# Altium footprint library SamacSys.PcbLib: 33 footprints (part 2 of 3)
Each footprint in its own frame and in the unit in brackets; x right, y up, seen from the top. Pads: shape width x height; smd on the part's side, far side on the other; paste and mask are expansions set on the pad; w line width, h text height; cw(c..) or ccw(c..) is an arc to the next point about the centre after c.
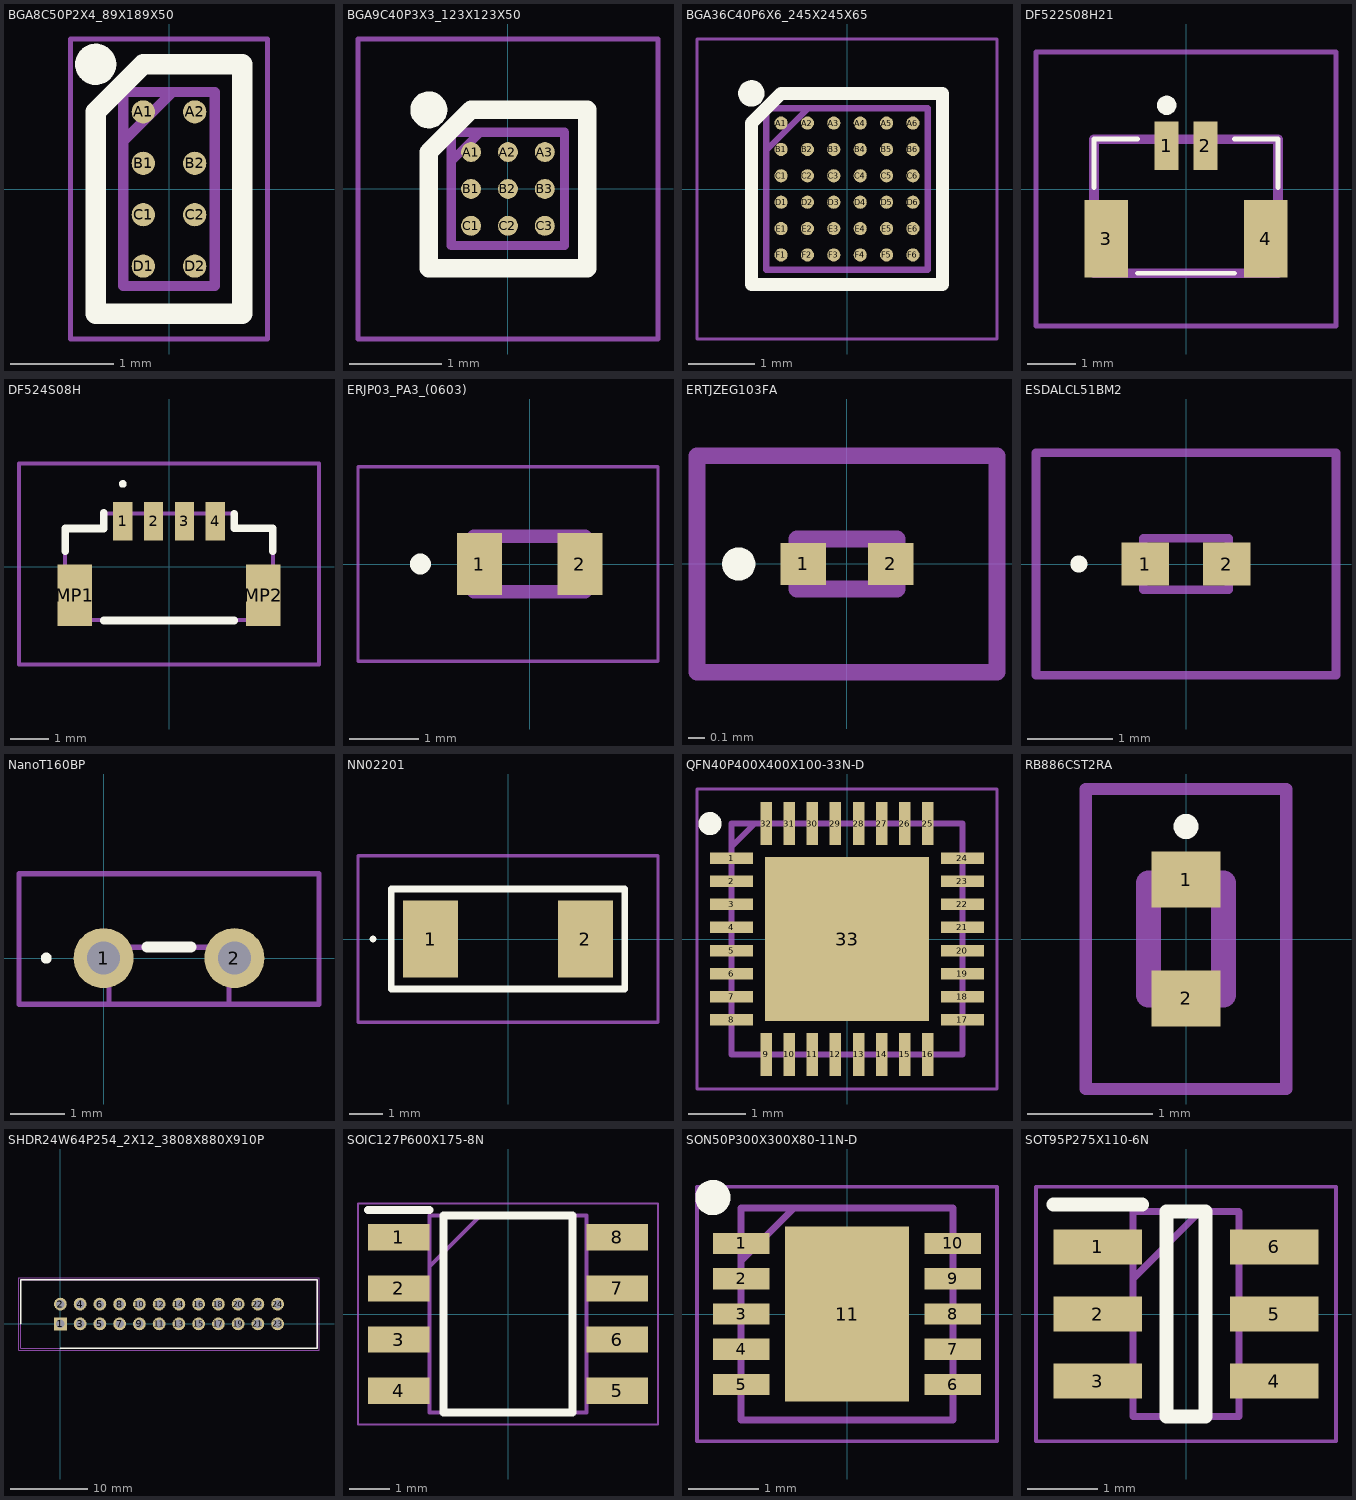
[diagram p1: the footprints below, top view; thin cyan lines are the x and y axes]

## BGA8C50P2X4_89X189X50 [mm]
pads (8):
  round 0.226 smd: A1(-0.25,0.75) A2(0.25,0.75) B1(-0.25,0.25) B2(0.25,0.25) C1(-0.25,-0.25) C2(0.25,-0.25) D1(-0.25,-0.75) D2(0.25,-0.75)
Top Overlay:
  circle w0.2: c-0.713,1.213 r0.1
  lines w0.2: -0.713,-1.213 -0.713,0.75 -0.25,1.213 0.713,1.213 0.713,-1.213 -0.713,-1.213
Mechanical 13:
  lines w0.1: -0.444,0.464 0.036,0.944 ; -0.444,-0.944 -0.444,0.944 0.444,0.944 0.444,-0.944 -0.444,-0.944
Mechanical 15:
  lines w0.05: -0.959,-1.459 -0.959,1.459 0.959,1.459 0.959,-1.459 -0.959,-1.459
3D body "TS5A3153YZPR.stp": height 0.5, standoff 0, extent -0.444,-0.944 0.444,0.944

## BGA9C40P3X3_123X123X50 [mm]
pads (9):
  round 0.216 smd: A1(-0.4,0.4) A2(0,0.4) A3(0.4,0.4) B1(-0.4,0) B2(0,0) B3(0.4,0) C1(-0.4,-0.4) C2(0,-0.4) C3(0.4,-0.4)
Top Overlay:
  circle w0.2: c-0.858,0.858 r0.1
  lines w0.2: -0.858,-0.858 -0.858,0.4 -0.4,0.858 0.858,0.858 0.858,-0.858 -0.858,-0.858
Mechanical 13:
  lines w0.1: -0.614,0.301 -0.301,0.614 ; -0.614,-0.614 -0.614,0.614 0.614,0.614 0.614,-0.614 -0.614,-0.614
Mechanical 15:
  lines w0.05: -1.626,-1.627 -1.626,1.626 1.627,1.626 1.627,-1.627 -1.626,-1.627
3D body "MAX40024ANL+.stp": height 0.5, standoff 0, extent -0.614,-0.614 0.614,0.614

## BGA36C40P6X6_245X245X65 [mm]
pads (36):
  round 0.2 smd: A1(-1,1) A2(-0.6,1) A3(-0.2,1) A4(0.2,1) A5(0.6,1) A6(1,1) B1(-1,0.6) B2(-0.6,0.6) B3(-0.2,0.6) B4(0.2,0.6) B5(0.6,0.6) B6(1,0.6) C1(-1,0.2) C2(-0.6,0.2) C3(-0.2,0.2) C4(0.2,0.2) C5(0.6,0.2) C6(1,0.2) D1(-1,-0.2) D2(-0.6,-0.2) D3(-0.2,-0.2) D4(0.2,-0.2) D5(0.6,-0.2) D6(1,-0.2) E1(-1,-0.6) E2(-0.6,-0.6) E3(-0.2,-0.6) E4(0.2,-0.6) E5(0.6,-0.6) E6(1,-0.6) F1(-1,-1) F2(-0.6,-1) F3(-0.2,-1) F4(0.2,-1) F5(0.6,-1) F6(1,-1)
Top Overlay:
  circle w0.2: c-1.45,1.45 r0.1
  lines w0.2: -1.45,-1.45 1.45,-1.45 1.45,1.45 -1,1.45 -1.45,1 -1.45,-1.45
Mechanical 13:
  lines w0.1: -1.225,0.588 -0.587,1.226 ; -1.225,-1.225 1.225,-1.225 1.225,1.225 -1.225,1.225 -1.225,-1.225
Mechanical 15:
  lines w0.05: -2.275,-2.275 2.275,-2.275 2.275,2.275 -2.275,2.275 -2.275,-2.275
3D body "TMUX646NZECR.stp": height 0.65, standoff 0, extent -1.225,-1.225 1.225,1.225

## DF522S08H21 [mm]
pads (4):
  rect 0.5x1 smd: 1(-0.4,0.89) 2(0.4,0.89)
  rect 0.9x1.6 smd: 3(-1.65,-1.03) 4(1.65,-1.03)
Top Overlay:
  lines w0.1: -1.9,0.03 -1.9,1.03 -1,1.03 ; -1,-1.74 1,-1.74 ; 1,1.03 1.9,1.03 1.9,0.03
  lines w0.2: -0.5,1.73 ccw(c-0.4,1.73) -0.3,1.73 ccw(c-0.4,1.73) -0.5,1.73
Mechanical 13:
  lines w0.2: -1.9,-1.74 -1.9,1.03 1.9,1.03 1.9,-1.74 -1.9,-1.74
Mechanical 15:
  lines w0.1: -3.1,-2.83 -3.1,2.83 3.1,2.83 3.1,-2.83 -3.1,-2.83
3D body "DF52-2S-0.8H_21_.stp": height 1.1, standoff 0, extent -2.01,-1.74 2.01,1.34

## DF524S08H [mm]
pads (6):
  rect 0.5x1 smd: 1(-1.2,1.177) 2(-0.4,1.177) 3(0.4,1.177) 4(1.2,1.177)
  rect 0.9x1.6 smd: MP1(-2.45,-0.743) MP2(2.45,-0.743)
Top Overlay:
  lines w0.1: -1.2,2.1 ccw(c-1.2,2.15) -1.2,2.2 ccw(c-1.2,2.15) -1.2,2.1
  lines w0.2: -2.7,0.4 -2.7,0.992 -1.7,0.992 -1.7,1.393 ; -1.7,-1.4 1.7,-1.4 ; 1.7,1.377 1.7,1 2.7,0.992 2.7,0.4
Mechanical 13:
  lines w0.1: -1.7,1.377 1.7,1.377 1.7,0.992 2.7,0.992 2.7,-1.393 -2.7,-1.393 -2.7,0.992 -1.7,0.992 -1.7,1.393
Mechanical 15:
  lines w0.1: -3.9,-2.543 3.9,-2.543 3.9,2.677 -3.9,2.677 -3.9,-2.543

## ERJP03_PA3_(0603) [mm]
pads (2):
  rect 0.65x0.9 smd: 1(-0.725,0) 2(0.725,0)
Top Overlay:
  circle w0.2: c-1.575,0 r0.05
Mechanical 13:
  lines w0.2: -0.8,-0.4 -0.8,0.4 0.8,0.4 0.8,-0.4 -0.8,-0.4
Mechanical 15:
  lines w0.05: -2.475,-1.4 -2.475,1.4 1.85,1.4 1.85,-1.4 -2.475,-1.4
3D body "ERJ-PA3J302V.stp": height 0.45, standoff 0, extent -0.8,-0.4 0.8,0.4

## ERTJZEG103FA [mm]
pads (2):
  rect 0.275x0.25 smd: 1(-0.263,0) 2(0.263,0)
Top Overlay:
  lines w0.1: -0.65,-0.05 ccw(c-0.65,0) -0.65,0.05 ccw(c-0.65,0) -0.65,-0.05
Mechanical 13:
  lines w0.1: -0.3,-0.15 -0.3,0.15 0.3,0.15 0.3,-0.15 -0.3,-0.15
Mechanical 15:
  lines w0.1: -0.9,-0.65 -0.9,0.65 0.9,0.65 0.9,-0.65 -0.9,-0.65
3D body "ERT-JZEG103FA.stp": height 0.33, standoff 0, extent -0.3,-0.15 0.3,0.15

## ESDALCL51BM2 [mm]
pads (2):
  rect 0.55x0.5 smd: 1(-0.475,0) 2(0.475,0)
Top Overlay:
  lines w0.1: -1.3,0 cw(c-1.25,0) -1.2,0 cw(c-1.25,0) -1.3,0
Mechanical 13:
  lines w0.1: -0.5,-0.3 -0.5,0.3 0.5,0.3 0.5,-0.3 -0.5,-0.3
Mechanical 15:
  lines w0.1: -1.75,-1.3 -1.75,1.3 1.75,1.3 1.75,-1.3 -1.75,-1.3
3D body "ESDALCL5-1BM2.stp": height 0.6, standoff 0, extent -0.7,-0.3 0.7,0.3

## NanoT160BP [mm]
pads (2):
  round 1.1 hole 0.6: 1(0,0) 2(2.4,0)
Top Overlay:
  lines w0.1: -1.1,0 ccw(c-1.05,0) -1,0 ccw(c-1.05,0) -1.1,0
  lines w0.2: 0.8,0.2 1.6,0.2
Mechanical 13:
  lines w0.1: 0.1,-0.85 0.1,0.2 2.3,0.2 2.3,-0.85 0.1,-0.85
Mechanical 15:
  lines w0.1: -1.55,-0.85 -1.55,1.55 3.95,1.55 3.95,-0.85 -1.55,-0.85
3D body "NANOT160BP.stp": height 0.46, standoff -1.34, extent 0.05,-1.5 2.35,0.15

## NN02201 [mm]
pads (2):
  rect 1.65x2.3 smd: 1(-2.325,0) 2(2.325,0)
Top Overlay:
  lines w0.1: -4.1,0 ccw(c-4.05,0) -4,0 ccw(c-4.05,0) -4.1,0
  lines w0.2: -3.5,-1.5 -3.5,1.5 3.5,1.5 3.5,-1.5 -3.5,-1.5
Mechanical 13:
  lines w0.1: -3.5,-1.5 -3.5,1.5 3.5,1.5 3.5,-1.5 -3.5,-1.5
Mechanical 15:
  lines w0.1: -4.5,-2.5 -4.5,2.5 4.5,2.5 4.5,-2.5 -4.5,-2.5
3D body "NN02-201.stp": height 1.02, standoff 0, extent -3.5,-1.5 3.5,1.5

## QFN40P400X400X100-33N-D [mm]
pads (33):
  rect 0.75x0.2 smd: 1(-2,1.4) 2(-2,1) 3(-2,0.6) 4(-2,0.2) 5(-2,-0.2) 6(-2,-0.6) 7(-2,-1) 8(-2,-1.4) 17(2,-1.4) 18(2,-1) 19(2,-0.6) 20(2,-0.2) 21(2,0.2) 22(2,0.6) 23(2,1) 24(2,1.4)
  rect 0.2x0.75 smd: 9(-1.4,-2) 10(-1,-2) 11(-0.6,-2) 12(-0.2,-2) 13(0.2,-2) 14(0.6,-2) 15(1,-2) 16(1.4,-2) 25(1.4,2) 26(1,2) 27(0.6,2) 28(0.2,2) 29(-0.2,2) 30(-0.6,2) 31(-1,2) 32(-1.4,2)
  rect 2.85x2.85 smd: 33(0,0)
Top Overlay:
  circle w0.2: c-2.375,2 r0.1
Mechanical 13:
  lines w0.1: -2,1.6 -1.6,2 ; -2,-2 2,-2 2,2 -2,2 -2,-2
Mechanical 15:
  lines w0.05: -2.6,-2.6 2.6,-2.6 2.6,2.6 -2.6,2.6 -2.6,-2.6
3D body "ADS1292IRSMR.stp": height 1, standoff 0, extent -2,-2 2,2

## RB886CST2RA [mm]
pads (2):
  rect 0.55x0.45 smd: 1(0,0.475) 2(0,-0.475)
Top Overlay:
  lines w0.1: -0.05,0.9 cw(c0,0.9) 0.05,0.9 cw(c0,0.9) -0.05,0.9
Mechanical 13:
  lines w0.2: -0.3,-0.45 0.3,-0.45 0.3,0.45 -0.3,0.45 -0.3,-0.45
Mechanical 15:
  lines w0.1: -0.8,-1.2 -0.8,1.2 0.8,1.2 0.8,-1.2 -0.8,-1.2
3D body "RB530CM-30T2R.stp": height 0.4, standoff 0, extent -0.3,-0.525 0.3,0.525

## SHDR24W64P254_2X12_3808X880X910P [mm]
pads (24):
  rect 1.65x1.65 hole 1.1: 1(0,0)
  round 1.65 hole 1.1: 2(0,2.54) 3(2.54,0) 4(2.54,2.54) 5(5.08,0) 6(5.08,2.54) 7(7.62,0) 8(7.62,2.54) 9(10.16,0) 10(10.16,2.54) 11(12.7,0) 12(12.7,2.54) 13(15.24,0) 14(15.24,2.54) 15(17.78,0) 16(17.78,2.54) 17(20.32,0) 18(20.32,2.54) 19(22.86,0) 20(22.86,2.54) 21(25.4,0) 22(25.4,2.54) 23(27.94,0) 24(27.94,2.54)
Top Overlay:
  lines w0.2: -5.07,0 -5.07,5.67 33.01,5.67 33.01,-3.13 0,-3.13
Mechanical 13:
  lines w0.1: -5.07,-3.13 33.01,-3.13 33.01,5.67 -5.07,5.67 -5.07,-3.13
Mechanical 15:
  lines w0.05: -5.32,-3.38 33.26,-3.38 33.26,5.92 -5.32,5.92 -5.32,-3.38
3D body "BHR-24-VUA.stp": height 9.1, standoff -3.3, extent -5.07,-3.13 33.01,5.67

## SOIC127P600X175-8N [mm]
pads (8):
  rect 1.525x0.65 smd: 1(-2.712,1.905) 2(-2.712,0.635) 3(-2.712,-0.635) 4(-2.712,-1.905) 5(2.712,-1.905) 6(2.712,-0.635) 7(2.712,0.635) 8(2.712,1.905)
Top Overlay:
  lines w0.2: -3.475,2.58 -1.95,2.58 ; -1.6,-2.45 1.6,-2.45 1.6,2.45 -1.6,2.45 -1.6,-2.45
Mechanical 13:
  lines w0.1: -1.95,1.18 -0.68,2.45 ; -1.95,-2.45 1.95,-2.45 1.95,2.45 -1.95,2.45 -1.95,-2.45
Mechanical 15:
  lines w0.05: -3.725,-2.75 3.725,-2.75 3.725,2.75 -3.725,2.75 -3.725,-2.75
3D body "NE555DR.stp": height 1.75, standoff 0, extent -3,-2.45 3,2.45

## SON50P300X300X80-11N-D [mm]
pads (11):
  rect 0.8x0.3 smd: 1(-1.5,1) 2(-1.5,0.5) 3(-1.5,0) 4(-1.5,-0.5) 5(-1.5,-1) 6(1.5,-1) 7(1.5,-0.5) 8(1.5,0) 9(1.5,0.5) 10(1.5,1)
  rect 1.75x2.48 smd: 11(0,0)
Top Overlay:
  circle w0.25: c-1.9,1.65 r0.125
Mechanical 13:
  lines w0.1: -1.5,0.75 -0.75,1.5 ; -1.5,-1.5 1.5,-1.5 1.5,1.5 -1.5,1.5 -1.5,-1.5
Mechanical 15:
  lines w0.05: -2.125,-1.8 2.125,-1.8 2.125,1.8 -2.125,1.8 -2.125,-1.8
3D body "LTC6078CDD#PBF.stp": height 0.8, standoff 0, extent -1.55,-1.5 1.55,1.5

## SOT95P275X110-6N [mm]
pads (6):
  rect 1.25x0.5 smd: 1(-1.25,0.95) 2(-1.25,0) 3(-1.25,-0.95) 4(1.25,-0.95) 5(1.25,0) 6(1.25,0.95)
Top Overlay:
  lines w0.2: -1.875,1.55 -0.625,1.55 ; -0.275,-1.45 -0.275,1.45 0.275,1.45 0.275,-1.45 -0.275,-1.45
Mechanical 13:
  lines w0.1: -0.75,0.5 0.2,1.45 ; -0.75,-1.45 -0.75,1.45 0.75,1.45 0.75,-1.45 -0.75,-1.45
Mechanical 15:
  lines w0.05: -2.125,-1.8 -2.125,1.8 2.125,1.8 2.125,-1.8 -2.125,-1.8
3D body "NCR421UX.stp": height 1.01, standoff 0, extent -1.373,-1.474 1.377,1.476